# EAGLE library part TAS5768M (library My_TI)
TAS5768M 2x50W/4Ω PurePath™ Smart Amp. Wide Power Supply Range: 4.5 V –26.4 V. Wide Load Range: 2 Ω – 8 Ω. High output current: 2x 7.5A Peak output power 2x 50W/4Ω Datasheet <http://www.ti.com/lit/ds/symlink/tas5768m.pdf>
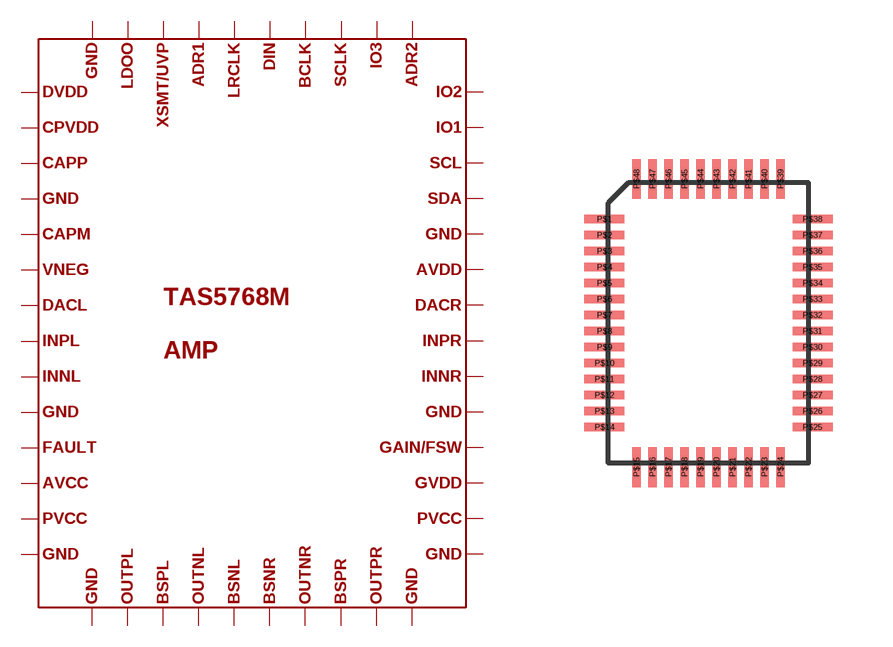
[diagram p38: symbol with the pads of VQFN48; footprint VQFN48]

Designator prefix AMP

## TAS5768M  [VQFN48]
P$1  P$1
P$2  P$2
P$3  P$3
P$4  P$4
P$5  P$5
P$6  P$6
P$7  P$7
P$8  P$8
P$9  P$9
P$10  P$10
P$11  P$11
P$12  P$12
P$13  P$13
P$14  P$14
P$15  P$15
P$16  OUTPL
P$17  BSPL
P$18  P$18
P$19  P$19
P$20  P$20
P$21  P$21
P$22  P$22
P$23  P$23
P$24  P$24
P$25  P$25
P$26  P$26
P$27  P$27
P$28  P$28
P$29  P$29
P$30  P$30
P$31  P$31
P$32  P$32
P$33  P$33
P$34  P$34
P$35  P$35
P$36  P$36
P$37  P$37
P$38  P$38
P$39  P$39
P$40  P$40
P$41  P$41
P$42  P$42
P$43  P$43
P$44  P$44
P$45  P$45
P$46  P$46
P$47  P$47
P$48  P$48

## Footprint VQFN48 (pad centres in mm)
smd 1 x 0.22: P$1 -2.6,2.6; P$2 -2.6,2.2; P$3 -2.6,1.8; P$4 -2.6,1.4; P$5 -2.6,1; P$6 -2.6,0.6; P$7 -2.6,0.2; P$8 -2.6,-0.2; P$9 -2.6,-0.6; P$10 -2.6,-1; P$11 -2.6,-1.4; P$12 -2.6,-1.8; P$13 -2.6,-2.2; P$14 -2.6,-2.6; P$25 2.6,-2.6; P$26 2.6,-2.2; P$27 2.6,-1.8; P$28 2.6,-1.4; P$29 2.6,-1; P$30 2.6,-0.6; P$31 2.6,-0.2; P$32 2.6,0.2; P$33 2.6,0.6; P$34 2.6,1; P$35 2.6,1.4; P$36 2.6,1.8; P$37 2.6,2.2; P$38 2.6,2.6
smd 0.22 x 1: P$15 -1.8,-3.6; P$16 -1.4,-3.6; P$17 -1,-3.6; P$18 -0.6,-3.6; P$19 -0.2,-3.6; P$20 0.2,-3.6; P$21 0.6,-3.6; P$22 1,-3.6; P$23 1.4,-3.6; P$24 1.8,-3.6; P$39 1.8,3.6; P$40 1.4,3.6; P$41 1,3.6; P$42 0.6,3.6; P$43 0.2,3.6; P$44 -0.2,3.6; P$45 -0.6,3.6; P$46 -1,3.6; P$47 -1.4,3.6; P$48 -1.8,3.6